# Altium schematic symbol library Разъемы.SchLib: 1 symbol
Pins are listed as number, name and electrical type; pins without a type are passive.

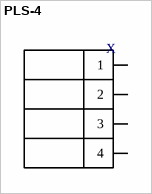
[diagram p0: symbol PLS-4]

## PLS-4
designator X  (value not drawn)
PLS-4 (DS-1021-1x4), Вилка штыревая 2.54мм 1x4pin прямая тип1
footprint PLS-4 (X)
pins: 1, 2, 3, 4